# EAGLE library part B_KEY (library Connetor_NGFF)
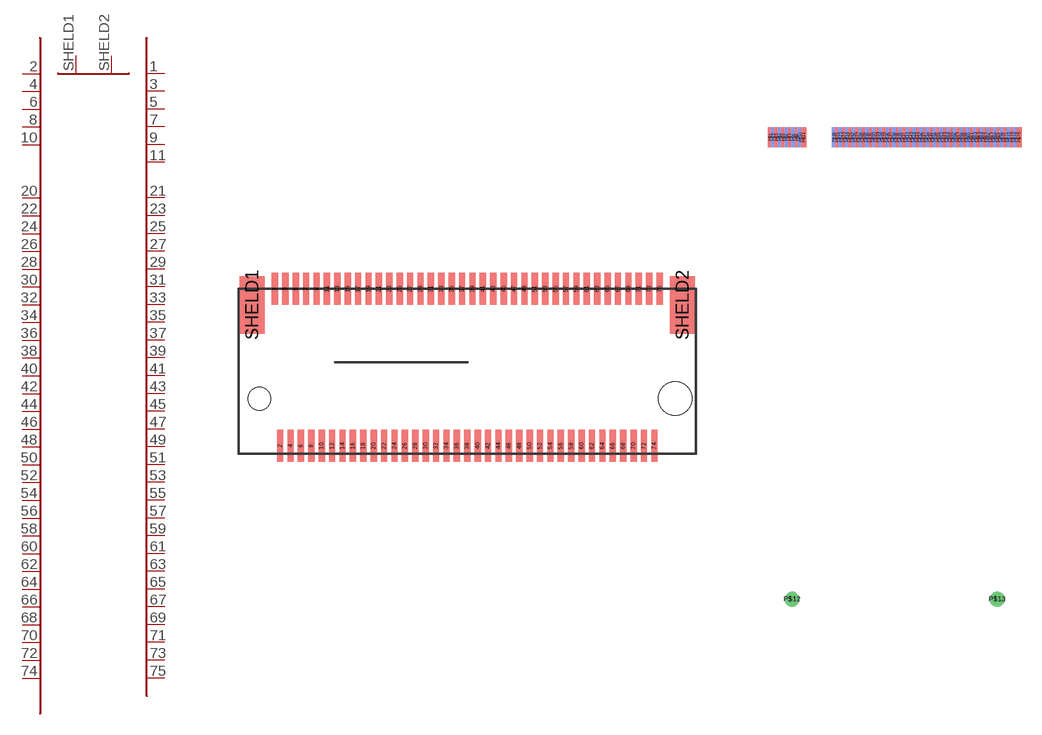
[diagram p1: symbol with the pads of NGFF_SOCKET; footprints NGFF_SOCKET, 2242-B]

Designator prefix -

## B_KEY  [NGFF_SOCKET]
1  PIN1
2  PIN2
3  PIN3
4  PIN4
5  PIN5
6  PIN6
7  PIN7
8  PIN8
9  PIN9
10  PIN10
11  PIN11
20  PIN20
21  PIN21
22  PIN22
23  PIN23
24  PIN24
25  PIN25
26  PIN26
27  PIN27
28  PIN28
29  PIN29
30  PIN30
31  PIN31
32  PIN32
33  PIN33
34  PIN34
35  PIN35
36  PIN36
37  PIN37
38  PIN38
39  PIN39
40  PIN40
41  PIN41
42  PIN42
43  PIN43
44  PIN44
45  PIN45
46  PIN46
47  PIN47
48  PIN48
49  PIN49
50  PIN50
51  PIN51
52  PIN52
53  PIN53
54  PIN54
55  PIN55
56  PIN56
57  PIN57
58  PIN58
59  PIN59
60  PIN60
61  PIN61
62  PIN62
63  PIN63
64  PIN64
65  PIN65
66  PIN66
67  PIN67
68  PIN68
69  PIN69
70  PIN70
71  PIN71
72  PIN72
73  PIN73
74  PIN74
75  PIN75
SHELD1  SHELD1
SHELD2  SHEDL2

## B_KEYB  [2242-B]
P$1  PIN1
P$2  PIN2
P$3  PIN3
P$4  PIN4
P$5  PIN5
P$6  PIN6
P$7  PIN7
P$8  PIN8
P$9  PIN9
P$10  PIN10
P$11  PIN11
P$12  SHEDL2
P$13  SHELD1
P$20  PIN20
P$21  PIN21
P$22  PIN22
P$23  PIN23
P$24  PIN24
P$25  PIN25
P$26  PIN26
P$27  PIN27
P$28  PIN28
P$29  PIN29
P$30  PIN30
P$31  PIN31
P$32  PIN32
P$33  PIN33
P$34  PIN34
P$35  PIN35
P$36  PIN36
P$37  PIN37
P$38  PIN38
P$39  PIN39
P$40  PIN40
P$41  PIN41
P$42  PIN42
P$43  PIN43
P$44  PIN44
P$45  PIN45
P$46  PIN46
P$47  PIN47
P$48  PIN48
P$49  PIN49
P$50  PIN50
P$51  PIN51
P$52  PIN52
P$53  PIN53
P$54  PIN54
P$55  PIN55
P$56  PIN56
P$57  PIN57
P$58  PIN58
P$59  PIN59
P$60  PIN60
P$61  PIN61
P$62  PIN62
P$63  PIN63
P$64  PIN64
P$65  PIN65
P$66  PIN66
P$67  PIN67
P$68  PIN68
P$69  PIN69
P$70  PIN70
P$71  PIN71
P$72  PIN72
P$73  PIN73
P$74  PIN74
P$75  PIN75

## Footprint NGFF_SOCKET (pad centres in mm)
smd 0.3 x 1.55: 1 -9.25,8.325; 2 -9,0.775; 3 -8.75,8.325; 4 -8.5,0.775; 5 -8.25,8.325; 6 -8,0.775; 7 -7.75,8.325; 8 -7.5,0.775; 9 -7.25,8.325; 10 -7,0.775; 11 -6.75,8.325; 12 -6.5,0.775; 13 -6.25,8.325; 14 -6,0.775; 15 -5.75,8.325; 16 -5.5,0.775; 17 -5.25,8.325; 18 -5,0.775; 19 -4.75,8.325; 20 -4.5,0.775; 21 -4.25,8.325; 22 -4,0.775; 23 -3.75,8.325; 24 -3.5,0.775; 25 -3.25,8.325; 26 -3,0.775; 27 -2.75,8.325; 28 -2.5,0.775; 29 -2.25,8.325; 30 -2,0.775; 31 -1.75,8.325; 32 -1.5,0.775; 33 -1.25,8.325; 34 -1,0.775; 35 -0.75,8.325; 36 -0.5,0.775; 37 -0.25,8.325; 38 0,0.775; 39 0.25,8.325; 40 0.5,0.775; 41 0.75,8.325; 42 1,0.775; 43 1.25,8.325; 44 1.5,0.775; 45 1.75,8.325; 46 2,0.775; 47 2.25,8.325; 48 2.5,0.775; 49 2.75,8.325; 50 3,0.775; 51 3.25,8.325; 52 3.5,0.775; 53 3.75,8.325; 54 4,0.775; 55 4.25,8.325; 56 4.5,0.775; 57 4.75,8.325; 58 5,0.775; 59 5.25,8.325; 60 5.5,0.775; 61 5.75,8.325; 62 6,0.775; 63 6.25,8.325; 64 6.5,0.775; 65 6.75,8.325; 66 7,0.775; 67 7.25,8.325; 68 7.5,0.775; 69 7.75,8.325; 70 8,0.775; 71 8.25,8.325; 72 8.5,0.775; 73 8.75,8.325; 74 9,0.775; 75 9.25,8.325
smd 1.2 x 2.75: SHELD1 -10.35,7.55; SHELD2 10.35,7.55
hole 1.1 at -10,3.05
hole 1.6 at 10,3.05

## Footprint 2242-B (pad centres in mm)
smd 0.35 x 1.5: P$1 -9.25,-1.25; P$3 -8.75,-1.25; P$5 -8.25,-1.25; P$7 -7.75,-1.25; P$9 -7.25,-1.25; P$11 -6.75,-1.25; P$21 -4.25,-1.25; P$23 -3.75,-1.25; P$25 -3.25,-1.25; P$27 -2.75,-1.25; P$29 -2.25,-1.25; P$31 -1.75,-1.25; P$33 -1.25,-1.25; P$35 -0.75,-1.25; P$37 -0.25,-1.25; P$39 0.25,-1.25; P$41 0.75,-1.25; P$43 1.25,-1.25; P$45 1.75,-1.25; P$47 2.25,-1.25; P$49 2.75,-1.25; P$51 3.25,-1.25; P$53 3.75,-1.25; P$55 4.25,-1.25; P$57 4.75,-1.25; P$59 5.25,-1.25; P$61 5.75,-1.25; P$63 6.25,-1.25; P$65 6.75,-1.25; P$67 7.25,-1.25; P$69 7.75,-1.25; P$71 8.25,-1.25; P$73 8.75,-1.25; P$75 9.25,-1.25
smd 0.35 x 1.5 bottom: P$2 -9,-1.25; P$4 -8.5,-1.25; P$6 -8,-1.25; P$8 -7.5,-1.25; P$10 -7,-1.25; P$20 -4.5,-1.25; P$22 -4,-1.25; P$24 -3.5,-1.25; P$26 -3,-1.25; P$28 -2.5,-1.25; P$30 -2,-1.25; P$32 -1.5,-1.25; P$34 -1,-1.25; P$36 -0.5,-1.25; P$38 0,-1.25; P$40 0.5,-1.25; P$42 1,-1.25; P$44 1.5,-1.25; P$46 2,-1.25; P$48 2.5,-1.25; P$50 3,-1.25; P$52 3.5,-1.25; P$54 4,-1.25; P$56 4.5,-1.25; P$58 5,-1.25; P$60 5.5,-1.25; P$62 6,-1.25; P$64 6.5,-1.25; P$66 7,-1.25; P$68 7.5,-1.25; P$70 8,-1.25; P$72 8.5,-1.25; P$74 9,-1.25
drill 0.6: P$12 -7.62,-35.56; P$13 7.62,-35.56